# Altium footprint library mach_canh_bao_lu_2.PcbLib: 41 footprints (part 1 of 3)
Each footprint in its own frame and in the unit in brackets; x right, y up, seen from the top. Pads: shape width x height; smd on the part's side, far side on the other; paste and mask are expansions set on the pad; w line width, h text height; cw(c..) or ccw(c..) is an arc to the next point about the centre after c.
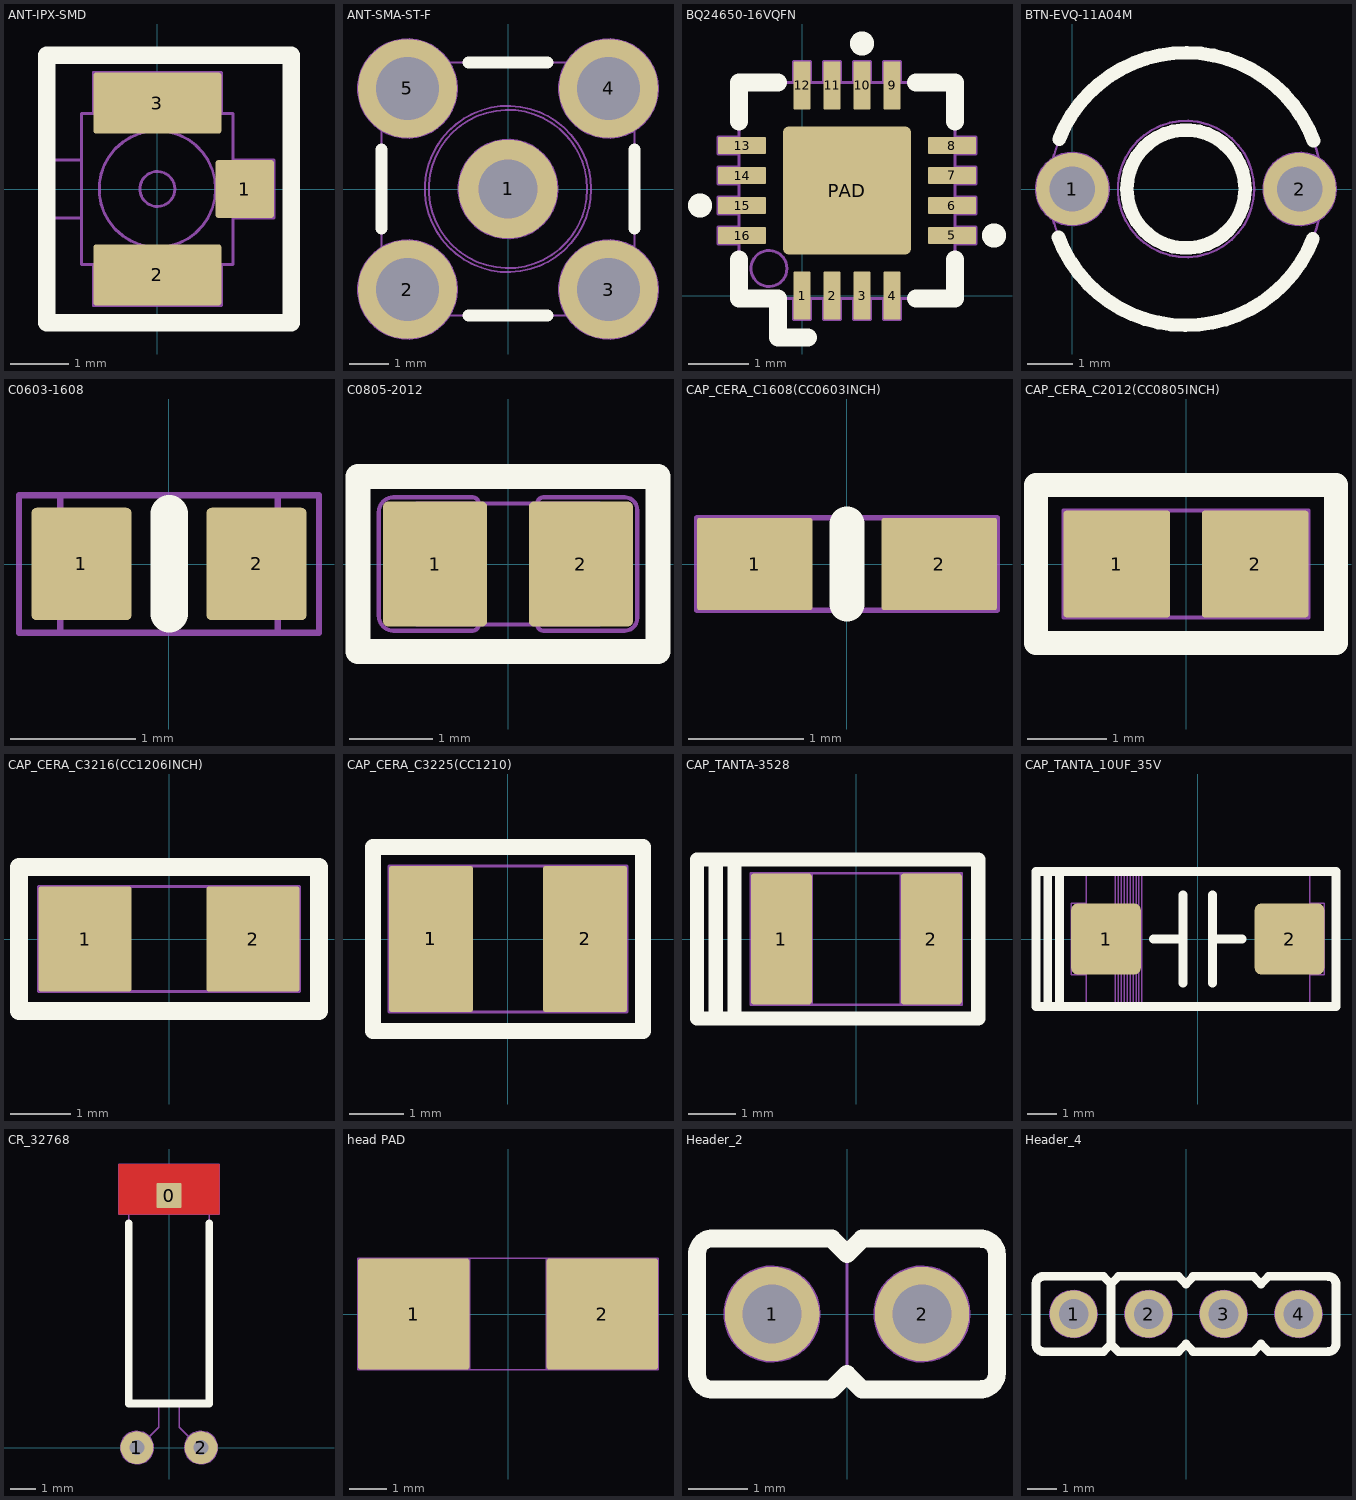
[diagram p0: the footprints below, top view; thin cyan lines are the x and y axes]

## ANT-IPX-SMD [mm] "0­6GHz GSM,  GPRS & CDMA mobile Phones"
height 1.25
pads (3):
  rrect10% 1x1 smd mask+0.1: 1(1.5,0)
  rrect10% 2.2x1.05 smd mask+0.1: 2(0,-1.475) 3(0,1.475)
Top Overlay:
  lines w0.3: -1.9,-2.3 2.3,-2.3 2.3,2.3 -1.9,2.3 -1.9,-2.3
Mechanical 1:
  circle w0.05: c0,0 r1
  circle w0.05: c0,0 r0.3
  lines w0.05: -1.3,-0.5 -1.8,-0.5 -1.8,0.5 -1.3,0.5 ; -1.3,-1.295 1.3,-1.295 1.3,1.295 -1.3,1.295 -1.3,-1.295 ; -1.1,-2 -1.1,-1.295 1.1,-1.295 1.1,-2 -1.1,-2 ; -1.1,1.295 1.1,1.295 1.1,2 -1.1,2 -1.1,1.295 ; 1.3,-0.5 2,-0.5 2,0.5 1.3,0.5 1.3,-0.5
  text ".Designator" at 0,0 h0.4
3D body "User Library-1909763-1.step": height 1.2, standoff -0.08, extent -1.453,-1.5 1.397,1.5

## ANT-SMA-ST-F [mm] "SMA Straight PCB Female Connector 50 ohm"
height 9.5
pads (5):
  round 2.5 hole 1.5 mask+0.1: 1(0,0)
  round 2.5 hole 1.6 mask+0.1: 2(-2.54,-2.54) 3(2.54,-2.54) 4(2.54,2.54) 5(-2.54,2.54)
Top Overlay:
  lines w0.3: -3.2,-1 -3.2,1 ; -1,-3.2 1,-3.2 ; -1,3.2 1,3.2 ; 3.2,-1 3.2,1
Mechanical 1:
  circle w0.05: c-2.54,2.54 r1.25
  circle w0.05: c2.54,2.54 r1.25
  circle w0.05: c0,0 r1.25
  circle w0.05: c2.54,-2.54 r1.25
  circle w0.05: c-2.54,-2.54 r1.25
  circle w0.05: c0,0 r0.5
  circle w0.05: c0,0 r2.1
  circle w0.05: c0,0 r2
  lines w0.05: -3.2,-3.2 -3.2,3.2 3.2,3.2 3.2,-3.2 -3.2,-3.2
  text ".Designator" at 0,0 h0.4
3D body "User Library-Johnson Components SMA - 50 Ohm Connectors 142-0701-801.step": height 10.1, standoff -4.17, extent -4.887,-4.204 4.633,3.716

## BQ24650-16VQFN [mm] "Chargeing the battery"
height 1
pads (17):
  rrect10% 0.28x0.8 smd mask+0.07: 1(0,0) 2(0.5,0) 3(1,0) 4(1.5,0) 9(1.5,3.5) 10(1,3.5) 11(0.5,3.5) 12(0,3.5)
  rrect10% 0.8x0.28 smd mask+0.07: 5(2.5,1) 6(2.5,1.5) 7(2.5,2) 8(2.5,2.5) 13(-1,2.5) 14(-1,2) 15(-1,1.5) 16(-1,1)
  rrect10% 2.14x2.14 smd mask+0.07: PAD(0.75,1.75)
Top Overlay:
  circle w0.3: c-1.7,1.5 r0.05
  circle w0.3: c1,4.2 r0.05
  circle w0.3: c3.2,1 r0.05
  lines w0.3: -1.05,0.6 -1.05,-0.05 -0.4,-0.05 -0.4,-0.7 0.1,-0.7 ; -1.05,2.9 -1.05,3.55 -0.4,3.55 ; 1.9,-0.05 2.55,-0.05 2.55,0.6 ; 1.9,3.55 2.55,3.55 2.55,2.9
Mechanical 1:
  circle w0.05: c-0.55,0.45 r0.3
  lines w0.05: -1.4,0.86 -1.4,1.14 -1.05,1.14 -1.05,0.86 -1.4,0.86 ; -1.4,1.36 -1.4,1.64 -1.05,1.64 -1.05,1.36 -1.4,1.36 ; -1.4,1.86 -1.4,2.14 -1.05,2.14 -1.05,1.86 -1.4,1.86 ; -1.4,2.36 -1.05,2.36 -1.05,2.64 -1.4,2.64 -1.4,2.36 ; -1.05,-0.05 2.55,-0.05 2.55,3.55 -1.05,3.55 -1.05,-0.05 ; -0.14,-0.4 -0.14,-0.05 0.14,-0.05 0.14,-0.4 -0.14,-0.4 ; -0.14,3.55 -0.14,3.9 0.14,3.9 0.14,3.55 -0.14,3.55 ; 0.36,-0.4 0.64,-0.4 0.64,-0.05 0.36,-0.05 0.36,-0.4 ; 0.36,3.55 0.36,3.9 0.64,3.9 0.64,3.55 0.36,3.55 ; 0.86,-0.4 1.14,-0.4 1.14,-0.05 0.86,-0.05 0.86,-0.4 ; 0.86,3.55 0.86,3.9 1.14,3.9 1.14,3.55 0.86,3.55 ; 1.36,-0.4 1.64,-0.4 1.64,-0.05 1.36,-0.05 1.36,-0.4 ; 1.36,3.55 1.64,3.55 1.64,3.9 1.36,3.9 1.36,3.55 ; 2.55,0.86 2.55,1.14 2.9,1.14 2.9,0.86 2.55,0.86 ; 2.55,1.36 2.9,1.36 2.9,1.64 2.55,1.64 2.55,1.36 ; 2.55,1.86 2.9,1.86 2.9,2.14 2.55,2.14 2.55,1.86 ; 2.55,2.36 2.9,2.36 2.9,2.64 2.55,2.64 2.55,2.36
  text ".Designator" at 1,1.7 h0.4
  text "9" at 1.1,2.5 h0.5
  text "8" at 2.55,2.14 h0.5
  text "4" at 1.14,-0.05 h0.5
  text "5" at 2.55,0.86 h0.5
  text "12" at -0.55,2.5 h0.5
  text "16" at 0,0.4 h0.5
  text "13" at -0.1,1.7 h0.5
3D body "User Library-VQFN 16-Pin 0_5mm Pitch RVA (S-PVQFN-N16).step": height 1, standoff 0, extent -1.038,-0.022 2.562,3.578

## BTN-EVQ-11A04M [mm] "PIN TO PIN 5, W=6MM"
height 4.3
pads (2):
  round 1.6 hole 1: 1(0,0) 2(5,0)
Top Overlay:
  circle w0.3: c2.5,0 r1.3
  lines w0.3: -0.305,-1.064 ccw(c2.5,0) 5.292,-1.097 ; -0.292,1.097 cw(c2.5,0) 5.305,1.064
Mechanical 1:
  circle w0.05: c2.5,0 r3
  circle w0.05: c2.5,0 r1.5
  circle w0.05: c5,0 r0.8
  circle w0.05: c0,0 r0.8
  circle w0.05: c2.5,0 r1.5
  text ".Designator" at 2.5,0 h0.4
3D body "43461.stp": height 4.3, standoff -9, extent -0.735,-3.025 5.715,3.175

## C0603-1608 [mm] "Chip Capacitor, Body 1.6x0.8mm, 1608"
height 0.85
pads (2):
  rrect10% 0.8x0.9 smd: 1(-0.7,0) 2(0.7,0)
Top Overlay:
  lines w0.3: 0,-0.4 0,0.4
Mechanical 1:
  lines w0.05: -0.87,-0.55 -0.87,0.54 ; 0.87,-0.55 0.87,0.54 ; -1.2,-0.55 1.2,-0.55 1.2,0.55 -1.2,0.55 -1.2,-0.55
  text ".Designator" at 0,0 h0.4
3D body "Cap 0603.STEP": height 0.6, standoff 0, extent -0.8,-0.4 0.8,0.4

## C0805-2012 [mm] "Chip Capacitor, 2-Leads, Body 2.0x1.3mm, IPC Medium Density"
height 1.45
pads (2):
  rrect10% 1.25x1.5 smd: 1(-0.875,0) 2(0.875,0)
Top Overlay:
  lines w0.3: -1.8,-1.05 1.8,-1.05 1.8,1.05 -1.8,1.05 -1.8,-1.05
Mechanical 1:
  lines w0.05: -0.35,-0.725 cw(c-0.425,-0.725) -0.425,-0.8 -1.375,-0.8 cw(c-1.375,-0.625) -1.55,-0.625 -1.55,0.625 cw(c-1.375,0.625) -1.375,0.8 -0.425,0.8 cw(c-0.425,0.725) -0.35,0.725 ; 0.35,-0.725 ccw(c0.425,-0.725) 0.425,-0.8 1.4,-0.8 ccw(c1.4,-0.65) 1.55,-0.65 1.55,0.65 ccw(c1.4,0.65) 1.4,0.8 0.425,0.8 ccw(c0.425,0.725) 0.35,0.725 ; -1.1,-0.725 -1.1,0.725 ; -1.1,-0.725 1.1,-0.725 1.1,0.725 -1.1,0.725 ; -1.1,-0.725 -1.1,0.725
  text ".Designator" at 0,0 h0.4
Mechanical 15:
  lines w0.1: -1.775,-1 -1.775,1 1.775,1 1.775,-1 -1.775,-1
3D body "User Library-cap_0805_lowprofile.step": height 0.95, standoff 0, extent -1,-0.6 1,0.6

## CAP_CERA_C1608(CC0603INCH) [mm] "Chip Capacitor, 2-Leads, Body 2.0x1.3mm, IPC Medium Density"
height 1.45
pads (2):
  rrect5% 1x0.8 smd mask+0.1: 1(-0.8,0) 2(0.8,0)
Top Overlay:
  lines w0.3: 0,-0.35 0,0.35
Mechanical 1:
  lines w0.05: -0.3,-0.4 -1.3,-0.4 -1.3,0.4 -0.3,0.4 ; 0.3,-0.4 1.3,-0.4 1.3,0.4 0.3,0.4 ; -0.8,-0.4 -0.8,0.4 0.8,0.4 0.8,-0.4 -0.8,-0.4
  text ".Designator" at 0,0 h0.4
3D body "Cap 0603.STEP": height 0.6, standoff 0, extent -0.8,-0.4 0.8,0.4

## CAP_CERA_C2012(CC0805INCH) [mm] "Chip Capacitor, 2-Leads, Body 2.0x1.3mm, IPC Medium Density"
height 1.45
pads (2):
  rrect5% 1.35x1.35 smd mask+0.1: 1(-0.875,0) 2(0.875,0)
Top Overlay:
  lines w0.3: -1.9,-1 1.9,-1 1.9,1 -1.9,1 -1.9,-1
Mechanical 1:
  lines w0.05: -0.15,-0.675 -1.55,-0.675 -1.55,0.675 -0.15,0.675 ; 0.8,-0.675 1.55,-0.675 1.55,0.675 0.8,0.675 ; -1.05,-0.675 -1.05,0.675 1.05,0.675 1.05,-0.675 -1.05,-0.675
  text ".Designator" at 0,0 h0.4
3D body "User Library-cap_0805_lowprofile.step": height 0.95, standoff 0, extent -1,-0.6 1,0.6

## CAP_CERA_C3216(CC1206INCH) [mm] "Ceramic Chip Capacitor, Body 32x16mm, C3216 (CC1206)"
height 1.35
pads (2):
  rrect5% 1.55x1.75 smd mask+0.1: 1(-1.4,0) 2(1.4,0)
Top Overlay:
  lines w0.3: -2.5,-1.2 -2.5,1.2 2.5,1.2 2.5,-1.2 -2.5,-1.2
Mechanical 1:
  lines w0.05: -0.625,-0.875 -2.175,-0.875 -2.175,0.875 -0.625,0.875 ; 0.625,-0.875 2.175,-0.875 2.175,0.875 0.625,0.875 ; -1.675,-0.875 1.675,-0.875 1.675,0.875 -1.675,0.875 -1.675,-0.875
  text ".Designator" at -0.1,0 h0.4
3D body "User Library-CAPC3216X10.step": height 1, standoff 0, extent -1.6,-0.8 1.6,0.8

## CAP_CERA_C3225(CC1210) [mm] "CC1210KKX7R6  BB476"
height 0.92
pads (3):
  rrect5% 1.55x2.7 smd mask+0.1: 1(-1.425,0) 1(-1.425,0) 2(1.425,0)
Top Overlay:
  lines w0.3: -2.5,-1.7 2.5,-1.7 2.5,1.7 -2.5,1.7 -2.5,-1.7
Mechanical 1:
  lines w0.05: -0.65,-1.35 -2.2,-1.35 -2.2,1.35 -0.65,1.35 ; 0.65,-1.35 2.2,-1.35 2.2,1.35 0.65,1.35 ; -1.7,-1.35 -1.7,1.35 1.7,1.35 1.7,-1.35 -1.7,-1.35
  text ".Designator" at 0,0 h0.4
3D body "User Library-cap_1210_lowprofile.step": height 1.3, standoff 0, extent -1.6,-1.25 1.6,1.25

## CAP_TANTA-3528 [mm] "35X28MM"
height 2.1
pads (2):
  rrect10% 1.3x2.8 smd mask+0.1: 1(-1.6,0) 2(1.6,0)
Top Overlay:
  lines w0.3: -3,-1.7 -3,1.7 ; -2.6,-1.7 -2.6,1.7 ; -3.4,-1.7 -3.4,1.7 2.6,1.7 2.6,-1.7 -3.4,-1.7
Mechanical 1:
  lines w0.05: -1.65,-1.4 -1.65,1.4 ; -1.55,-1.4 -1.55,1.4 ; -1.45,-1.4 -1.45,1.4 ; -1.35,-1.4 -1.35,1.4 ; -1.25,-1.4 -1.25,1.4 ; -1.15,-1.4 -1.15,1.4 ; -1.05,-1.4 -1.05,1.4 ; -2.25,-1.4 -2.25,1.4 -0.95,1.4 -0.95,-1.4 -2.25,-1.4 ; -1.75,-1.4 -1.75,1.4 1.75,1.4 1.75,-1.4 -1.75,-1.4 ; 0.95,-1.4 2.25,-1.4 2.25,1.4 0.95,1.4 0.95,-1.4
  text ".Designator" at 0,0 h0.4
3D body "User Library-AVX_BCASE.step": height 2.03, standoff 0, extent -1.723,-1.465 1.977,1.465

## CAP_TANTA_10UF_35V [mm] "CAP TANTALUM 10UF 35V 10% C2917(7343), Body 7.3x4.3mm"
height 3.1
pads (2):
  rrect20% 2.37x2.43 smd: 1(-3.12,0) 2(3.12,0)
Top Overlay:
  lines w0.3: -5.1,-2.3 -5.1,2.3 ; -1.5,0 -0.5,0 ; -0.5,-1.5 -0.5,1.5 ; 0.5,-1.5 0.5,1.5 ; 0.5,0 1.5,0 ; -4.7,-2.3 -5.5,-2.3 -5.5,2.3 -4.7,2.3 ; -4.7,-2.3 -4.7,2.3 ; -4.7,-2.3 4.7,-2.3 4.7,2.3 -4.7,2.3
Mechanical 1:
  lines w0.05: -3.8,-1.215 -4.305,-1.215 -4.305,1.215 -3.8,1.215 ; -2.8,-2.3 -2.8,2.3 ; -2.7,-2.3 -2.7,2.3 ; -2.6,-2.3 -2.6,2.3 ; -2.5,-2.3 -2.5,2.3 ; -2.4,-2.3 -2.4,2.3 ; -2.3,-2.3 -2.3,2.3 ; -2.2,-2.3 -2.2,2.3 ; -2.1,-2.3 -2.1,2.3 ; -2,-2.3 -2,2.3 ; -1.9,-2.3 -1.9,2.3 ; 3.8,-1.215 4.305,-1.215 4.305,1.215 3.8,1.215 ; -3.8,-2.3 -3.8,2.3 3.8,2.3 3.8,-2.3 -3.8,-2.3
  text ".Designator" at 0,-0.1 h0.4
3D body "User Library-CAP_TANT_7343-31.step": height 3.1, standoff 0, extent -3.8,-2.3 3.8,2.3

## CR_32768 [mm] "32.768 KHz LOW FREQUENCY CYLINDRICALWATCH CRYSTAL"
height 1.5
pads (3):
  rrect10% 1x1 smd mask+0.1: 0(0,10)
  round 1.3 hole 0.6 mask+0.1: 1(-1.27,0) 2(1.27,0)
Top Layer:
  region: -2,9.25 -2,11.25 2,11.25 2,9.25
Top Overlay:
  lines w0.3: -1.59,8.9 -1.59,1.75 1.59,1.75 1.59,8.9
Mechanical 1:
  circle w0.05: c1.27,0 r0.65
  circle w0.05: c-1.27,0 r0.65
  lines w0.05: -0.775,0.425 -0.4,0.8 -0.4,1.75 ; 0.4,1.75 0.4,0.8 0.775,0.425 ; -2,9.25 2,9.25 2,11.25 -2,11.25 -2,9.25 ; -1.59,1.75 -1.59,10.25 1.59,10.25 1.59,1.75 -1.59,1.75
  text ".Designator" at 0.3,7.4 h0.4
3D body "User Library-Crystal TH.step": height 3.2, standoff 0, extent -1.725,-0.6 1.725,10.175

## head PAD [mm] "head PAD"
height 0.9
pads (2):
  rrect5% 3x3 smd mask+0.1: 1(-2.54,0) 2(2.54,0)
Mechanical 1:
  lines w0.05: -2.94,0 -2.14,0 ; -2.54,-0.4 -2.54,0.4 ; 2.14,0 2.94,0 ; -1.04,-1.5 -1.04,1.5 ; -1.04,-1.5 -1.04,1.5 ; -1.04,-1.5 -4.04,-1.5 -4.04,1.5 -1.04,1.5 ; -1.04,-1.5 1.04,-1.5 ; -1.04,1.5 1.04,1.5 ; 1.04,-1.5 4.04,-1.5 4.04,1.5 1.04,1.5 ; 1.04,-1.5 1.04,1.5
  text ".Designator" at 0,-0.1 h0.4

## Header_2 [mm] "Connector DIP, 2Pin_2.54mm"
height 5
pads (2):
  round 1.6 hole 1 mask+0.1: 1(-1.27,0) 2(1.27,0)
Top Overlay:
  lines w0.3: -0.264,-1.28 -2.3,-1.28 cw(c-2.28,-1.02) -2.54,-1 -2.54,1 cw(c-2.28,1.02) -2.3,1.28 -0.254,1.28 ; -0.254,-1.27 0,-1.016 0,-1.026 0.254,-1.28 2.286,-1.28 2.286,-1.27 ; -0.254,1.27 0,1.016 0.254,1.27 ; 0.254,1.28 2.286,1.28 2.286,1.27 ; 2.26,-1.28 ccw(c2.26,-1) 2.54,-1 2.54,1 ccw(c2.26,1) 2.26,1.28
Mechanical 1:
  circle w0.05: c1.27,0 r0.8
  circle w0.05: c-1.27,0 r0.8
  lines w0.05: -0.264,-1.28 -2.3,-1.28 cw(c-2.28,-1.02) -2.54,-1 -2.54,1 cw(c-2.28,1.02) -2.3,1.28 -0.254,1.28 ; -0.254,-1.27 0,-1.016 0,-1.026 ; -0.254,1.27 0,1.016 ; 0.254,1.27 0,1.016 ; 0.254,1.28 2.286,1.28 2.286,1.27 ; 2.26,-1.28 ccw(c2.26,-1) 2.54,-1 2.54,1 ccw(c2.26,1) 2.26,1.28 ; 2.286,-1.27 2.286,-1.28 0.254,-1.28 0,-1.026 ; 0,-1.026 0,1.016
  text "1" at -1.524,-0.254 h1
  text "2" at 1.016,-0.254 h1
  text ".Designator" at 0,-0.005 h0.4
3D body "Header 1x2.STEP": height 10.1, standoff -1.5, extent -2.54,-1.27 2.54,1.27

## Header_4 [mm] "Connector DIP, 4Pin_2.54mm"
height 5
pads (4):
  round 1.6 hole 1 mask+0.1: 1(-3.81,0) 2(-1.27,0) 3(1.27,0) 4(3.81,0)
Top Overlay:
  lines w0.3: -2.794,-1.28 -2.794,-1.27 ; -2.794,1.27 -2.54,1.016 ; -2.794,1.28 -4.84,1.28 ccw(c-4.82,1.02) -5.08,1 -5.08,-1 ccw(c-4.82,-1.02) -4.84,-1.28 -2.804,-1.28 -2.794,-1.27 ; -2.286,1.27 -2.54,1.016 ; -2.286,1.28 -0.254,1.28 -0.254,1.27 0,1.016 0.254,1.27 ; 0.24,-1.28 2.276,-1.28 2.286,-1.27 ; 0.24,1.28 2.286,1.28 ; 0.254,-1.27 0,-1.016 -0.254,-1.27 -0.254,-1.28 -2.286,-1.28 -2.54,-1.026 ; 2.286,-1.28 2.286,-1.27 ; 2.286,1.27 2.54,1.016 2.794,1.27 ; 2.794,1.28 4.826,1.28 4.826,1.27 ; 4.8,-1.28 ccw(c4.8,-1) 5.08,-1 5.08,1 ccw(c4.8,1) 4.8,1.28 ; 4.826,-1.27 4.826,-1.28 2.794,-1.28 2.54,-1.026 2.54,-1.016 2.286,-1.27 ; -2.794,-1.27 -2.54,-1.016 -2.54,-1.026 ; -2.54,-1.026 -2.54,1.016
Mechanical 1:
  circle w0.05: c-3.81,0 r0.8
  circle w0.05: c-3.81,0 r0.8
  circle w0.05: c-1.27,0 r0.8
  circle w0.05: c1.27,0 r0.8
  circle w0.05: c3.81,0 r0.8
  lines w0.05: -2.794,-1.28 -2.794,-1.27 ; -2.794,1.27 -2.54,1.016 -2.286,1.27 ; -2.794,1.28 -4.84,1.28 ccw(c-4.82,1.02) -5.08,1 -5.08,-1 ccw(c-4.82,-1.02) -4.84,-1.28 -2.804,-1.28 -2.794,-1.27 ; -2.286,1.28 -0.254,1.28 -0.254,1.27 0,1.016 0.254,1.27 ; 0.24,-1.28 2.276,-1.28 2.286,-1.27 ; 0.24,1.28 2.286,1.28 ; 0.254,-1.27 0,-1.016 -0.254,-1.27 -0.254,-1.28 -2.286,-1.28 -2.54,-1.026 -2.54,-1.016 -2.794,-1.27 ; 2.286,-1.28 2.286,-1.27 ; 2.286,1.27 2.54,1.016 2.794,1.27 ; 2.54,-1.026 2.794,-1.28 4.826,-1.28 4.826,-1.27 ; 2.54,-1.016 2.286,-1.27 ; 2.794,1.28 4.826,1.28 4.826,1.27 ; 4.8,-1.28 ccw(c4.8,-1) 5.08,-1 5.08,1 ccw(c4.8,1) 4.8,1.28
  text "4" at 3.556,-0.254 h1.2
  text "1" at -4.064,-0.254 h1.2
3D body "Header 1x4.STEP": height 10.1, standoff -1.5, extent -5.08,-1.27 5.08,1.27